# EAGLE library part AD8400 (library 00_koarl-div)
1-Channel Digital Potentiometer Source: http://www.analog.com/static/imported-files/data_sheets/AD8400_8402_8403.pdf
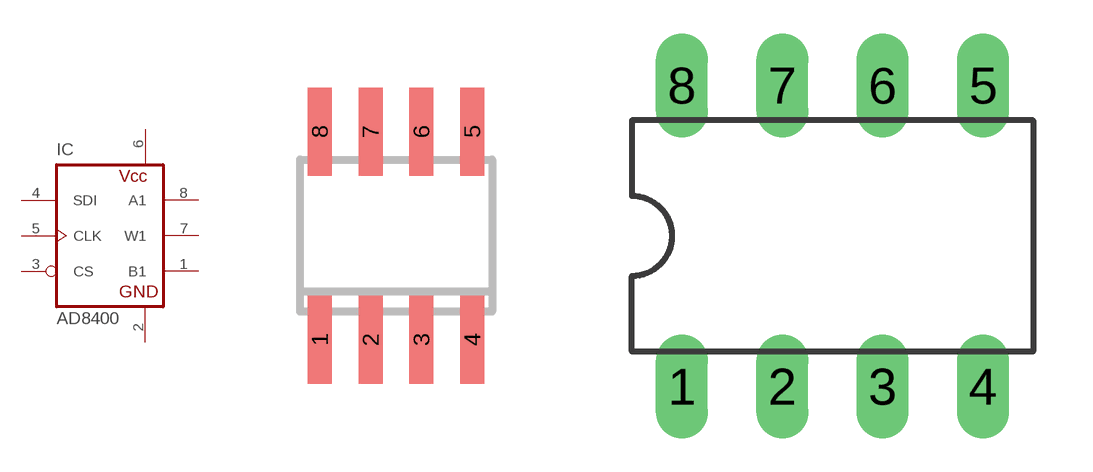
[diagram p0: symbol with the pads of SO8; footprints SO8, DIL08]

Designator prefix IC

## AD8400R  [SO8]
1  B1  pas
2  GND  pwr
3  CS  in
4  SDI  in
5  CLK  in
6  VDD  pwr
7  W1  pas
8  A1  pas

## AD8400N  [DIL08]
Pads as for SO8

## Footprint SO8 (pad centres in mm)
8-Lead Small Outline IC (SO-8) Source: http://www.analog.com/UploadedFiles/Data_Sheets/703465986AD8611_2_0.pdf
smd 0.6 x 2.2: 1 -1.905,-2.6; 2 -0.635,-2.6; 3 0.635,-2.6; 4 1.905,-2.6; 5 1.905,2.6; 6 0.635,2.6; 7 -0.635,2.6; 8 -1.905,2.6

## Footprint DIL08 (pad centres in mm)
Dual In Line Package
drill 0.813 long: 1 -3.81,-3.81; 2 -1.27,-3.81; 3 1.27,-3.81; 4 3.81,-3.81; 5 3.81,3.81; 6 1.27,3.81; 7 -1.27,3.81; 8 -3.81,3.81